# EAGLE library part 7SEG_1.3IN_34MM_CA (library seven_segment)
A library to use with 1.3" or 34mm height seven segment common anode displays.
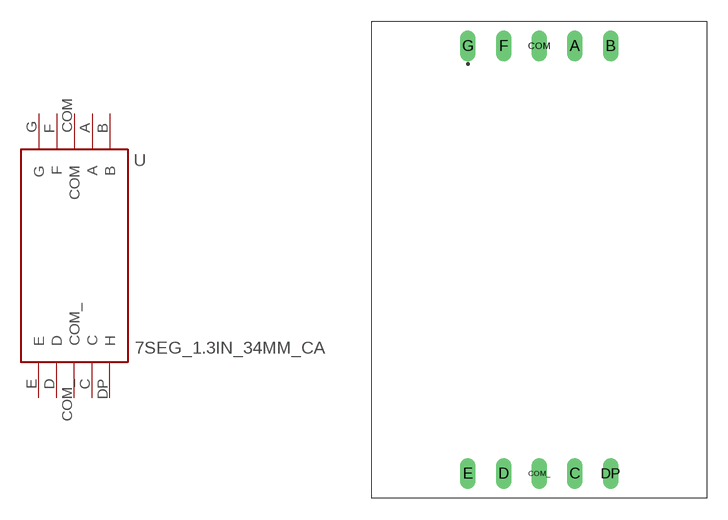
[diagram p0: symbol with the pads of 1.3INCH_34MM; footprint 1.3INCH_34MM]

Designator prefix -

## 7SEG_1.3IN_34MM_CA  [1.3INCH_34MM]
A  A
B  B
C  C
COM  COM
COM_  COM_
D  D
DP  H
E  E
F  F
G  G

## Footprint 1.3INCH_34MM (pad centres in mm)
drill 0.6 long: A 2.54,15.24; B 5.08,15.24; C 2.54,-15.24; COM 0,15.24; COM_ 0,-15.24; D -2.54,-15.24; DP 5.08,-15.24; E -5.08,-15.24; F -2.54,15.24; G -5.08,15.24